# Altium schematic symbol library SchlibIC.SchLib: 35 symbols
Pins are listed as number, name and electrical type; pins without a type are passive.

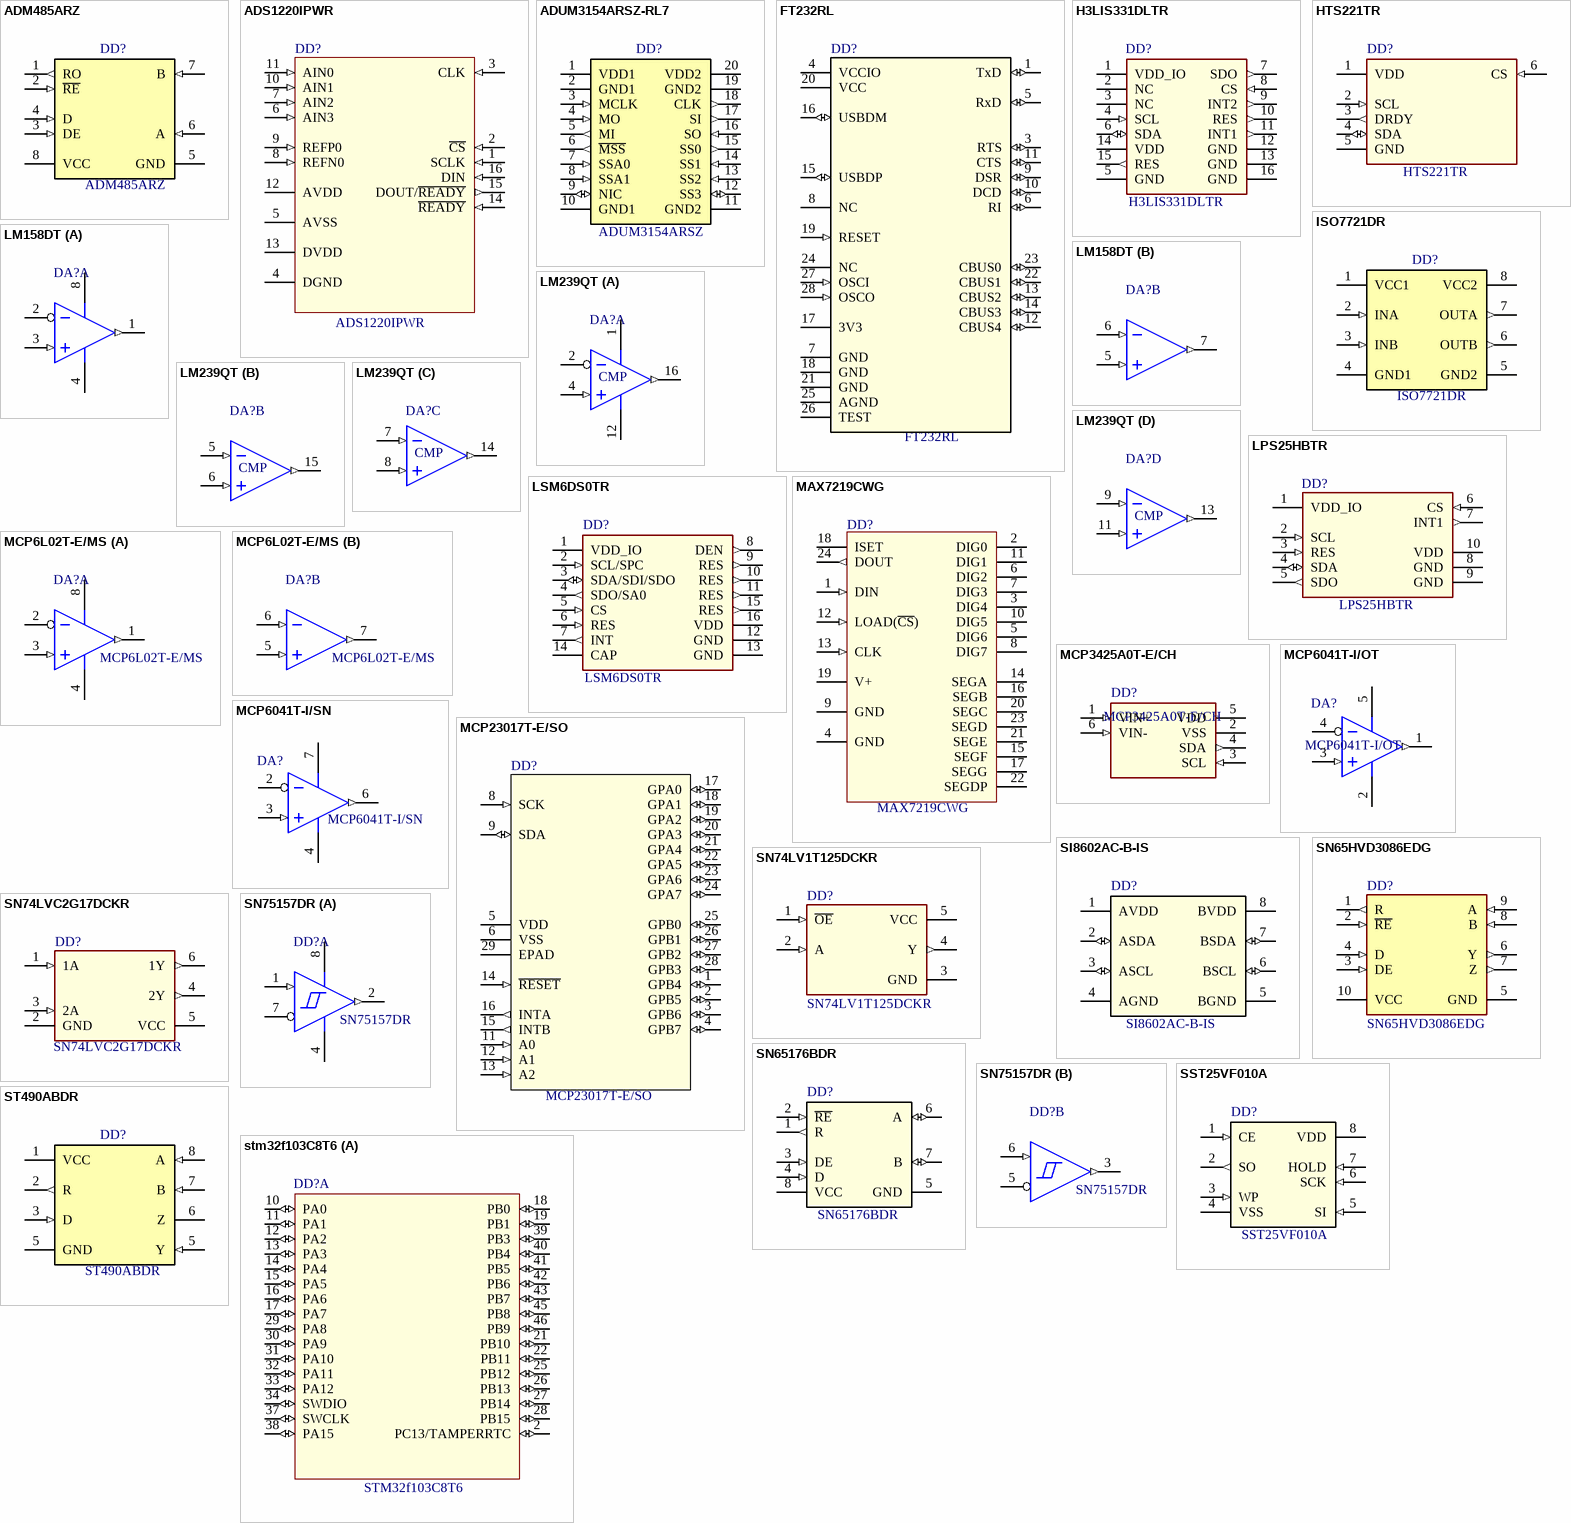
[diagram p0: symbols ADM485ARZ to stm32f103C8T6]

## ADM485ARZ
designator DD?
RS422 RS485 FULL Transceiver MSOP-10 5V; Manufacturer: Analog Devices; Power: 2.5Mbps; Value: RS-422,RS-485; Tolerance: -40°C ~ 85°C; Package: SO-8; Price: 1.8; Documentation: https://belchip.by/product/?selected_product=06293; ShoppingPlace: https://belchip.by/product/?selected_product=06293; Quantity: 1; ComponentLink1Description: STMmicroelectronics; ComponentLink1URL: https://belchip.by/sitedocs/34391.pdf; ValueDesc: =Трансивер ' '+Value+'  '+Package+'+Power+ ' '+Manufacturer; Part Number: ADM485ARZ
footprint 8-SOIC-4,90x3,90mm (SOIC, 8-Leads, Body 4,90x3,90mm, Pitch 1,27mm, IPC Medium Density)
pins: 1 RO (out) "RxD", 2 ~{RE} (in) "Enable RxD", 3 DE (in) "TxD Enable", 4 D (in) "TxD", 5 GND, 6 A (in) "RS485A", 7 B (in) "RS485B", 8 VCC

## ADS1220IPWR
designator DD?
24 Bit Analog to Digital Converter 2, 4 Input 1 Sigma-Delta 16-TSSOP; Manufacturer: Texas Instruments; Power: 2.3 V ~ 5.5 V, ±2.5; Value: ADC; Package: 16-TSSOP; Price: 8.52000; Documentation: http://www.ti.com/lit/ds/symlink/ads1220.pdf; ShoppingPlace: https://ru.aliexpress.com/wholesale?catId=0&initiative_id=SB_20190114102510&SearchText=ADS1220; Quantity: 1; ComponentLink1Description: ADS1220 Datasheet; ComponentLink1URL: http://www.ti.com/lit/ds/symlink/ads1220.pdf; Part Number: ADS1220IPWR
footprint 16-TSSOP (4.5mmx5.1mm1.2mm)
pins: 1 SCLK (in), 2 ~{CS} (in), 3 CLK (in), 4 DGND (power), 5 AVSS (power), 6 AIN3 (in), 7 AIN2 (in), 8 REFN0 (in), 9 REFP0 (in), 10 AIN1 (in), 11 AIN0 (in), 12 AVDD (power), 13 DVDD (power), 14 ~{READY} (in), 15 DOUT/~{READY} (out), 16 DIN (in)

## ADUM3154ARSZ-RL7
designator DD?  PartNumber: ADUM3154ARSZ
SPI Digital Isolator 3750Vrms 4 Channel 2Mbps 25kV/µs CMTI 20-SSOP (0.209", 5.30mm Width); Manufacturer: Analog Devices; Value: DGTL ISO 3.75KV 4CH SPI 20SSOP; Tolerance: -40°C ~ 85°C; ValueDesc: Цифровой изолятор ADUM3154ARSZ 20SSOP Analog Devices; Package: 20SSOP; Price: 5; Documentation: https://www.analog.com/media/en/technical-documentation/data-sheets/ADuM3154.pdf; ShoppingPlace: https://www.digikey.com/product-detail/en/analog-devices-inc/ADUM3154ARSZ-RL7/ADUM3154ARSZ-RL7CT-ND/5011582; Power: 2Mbps; Quantity: 1; ComponentLink1Description: Analog Devices; ComponentLink1URL: https://www.analog.com/media/en/technical-documentation/data-sheets/ADuM3154.pdf
footprint 20-SSOP (7.2mmx5.3mmx2mm)
pins: 1 VDD1 (power) "RxD", 2 GND1, 3 MCLK (in) "Enable RxD", 4 MO (in) "Enable RxD", 5 MI (out) "Enable RxD", 6 ~{MSS} (out) "Enable RxD", 7 SSA0 (in) "Enable RxD", 8 SSA1 (in) "Enable RxD", 9 NIC (io) "Enable RxD", 10 GND1 (power) "Enable RxD", 11 GND2 (power) "Enable RxD", 12 SS3 (io) "Enable RxD", 13 SS2 (in) "Enable RxD", 14 SS1 (in) "Enable RxD", 15 SS0 (out) "Enable RxD", 16 SO (in) "Enable RxD", 17 SI (out) "Enable RxD", 18 CLK (out) "Enable RxD", 19 GND2, 20 VDD2 (power) "RxD"

## FT232RL
designator DD?
Микросхема интерфейсов FT232RL-REEL / RS-232; Manufacturer: EFTDI; Power: 1.8V ~ 5.5 V; ValueDesc: FT232RL-REEL  28-SSOP+Power+ +Manufacturer; Package: 28-SSOP; Price: 7.5; Documentation: https://belchip.by/sitedocs/00002071.pdf; ShoppingPlace: https://belchip.by/product/?selected_product=02071; Quantity: 1; Value: FT232RL-REEL; ComponentLink1Description: EFTDI Datasheet; ComponentLink1URL: https://belchip.by/sitedocs/00002071.pdf; Part Number: FT232RL
footprint 28-SSOP (SSOP, 28-Leads, Body 10,20x5,30mm, Pitch 0,65mm, IPC Medium Density)
pins: 1 TxD (io), 3 RTS (io), 4 VCCIO (power) "POWER", 5 RxD (io), 6 RI (io), 7 GND (power) "NC", 8 NC, 9 DSR (io), 10 DCD (io), 11 CTS (io), 12 CBUS4 (io) "BUS4", 13 CBUS2 (io) "BUS2", 14 CBUS3 (io) "BUS3", 15 USBDP (io) "Digital Data", 16 USBDM (io) "Digital Data", 17 3V3 (power) "3V3OUT", 18 GND (power), 19 RESET (in), 20 VCC (power) "POWER", 21 GND (power), 22 CBUS1 (io) "BUS1", 23 CBUS0 (io) "BUS0", 24 NC, 25 AGND (power) "GND", 26 TEST (power), 27 OSCI (in) "CLOCK", 28 OSCO (in) "CLOCK"

## H3LIS331DLTR
designator DD?
Accelerometer X, Y, Z Axis ±100g, ±200g, ±400g 25Hz ~ 500Hz 16-TFLGA (3x3),ACCEL 100-400G I2C/SPI 16LGA; Manufacturer: STM MicroElectronics; Tolerance: -40°C ~ 85°C; ValueDesc: Акселелрометр +'PartNumber'+'Package'+'Manufacturer'; Part Number: H3LIS331DLTR; Package: 16LGA; Price: 12; Documentation: https://www.st.com/content/ccc/resource/technical/document/data_brief/2f/0b/8a/cd/d8/9d/4f/e8/DM00129124.pdf/files/DM00129124.pdf/jcr:content/translations/en.DM00129124.pdf; ShoppingPlace: https://www.digikey.com/product-detail/en/stmicroelectronics/H3LIS331DLTR/497-13903-6-ND/4311637; Power: ±400g; Quantity: 1; ComponentLink1Description: STMicroelectronics; ComponentLink1URL: https://www.st.com/content/ccc/resource/technical/document/data_brief/2f/0b/8a/cd/d8/9d/4f/e8/DM00129124.pdf/files/DM00129124.pdf/jcr:content/translations/en.DM00129124.pdf; Value: H3LIS331DLTR
footprint 16-TFLGA (3x3)
pins: 1 VDD_IO (power), 2 NC (power), 3 NC (power), 4 SCL (in), 5 GND (power), 6 SDA (io), 7 SDO (out), 8 CS (in), 9 INT2 (out), 10 RES (out), 11 INT1 (out), 12 GND (power), 13 GND (power), 14 VDD (power), 15 RES (out), 16 GND (power)

## HTS221TR
designator DD?
Humidity Temperature Sensor 0 ~ 100% RH I²C, SPI ±4.5% RH 10s Surface Mount; Manufacturer: STM MicroElectronics; Power: 0 ~ 100% RH,1.7V ~ 3.6V; Tolerance: -40°C ~ 120°C; ValueDesc: Датчик влажности и температуры +'PartNumber'+'Package'+'Manufacturer'; Part Number: HTS221TR; Package: 6-VFLGA; Price: 3.57; Documentation: https://www.st.com/content/ccc/resource/technical/document/datasheet/4d/9a/9c/ad/25/07/42/34/DM00116291.pdf/files/DM00116291.pdf/jcr:content/translations/en.DM00116291.pdf; ShoppingPlace: https://www.digikey.com/product-detail/en/stmicroelectronics/HTS221TR/497-15382-6-ND/5180542; Quantity: 1; ComponentLink1Description: STMicroelectronics; ComponentLink1URL: https://www.st.com/resource/en/datasheet/lps25hb.pdf; Value: HTS221TR
footprint HLGA-6L (2mm x 2mmx 0.9 mm)
pins: 1 VDD (power), 2 SCL (in), 3 DRDY (out), 4 SDA (io), 5 GND (power), 6 CS (in)

## ISO7721DR
designator DD?
General Purpose Digital Isolator 3000Vrms 2 Channel 100Mbps 85kV/µs CMTI 8-SOIC (0.154", 3.90mm Width); Manufacturer: Texas Instruments; PVoltage: 3KV; Tolerance: -40°C ~ 85°C; Package: SO-8; Price: 1,84; Documentation: https://www.digikey.com/product-detail/en/stmicroelectronics/ST490ABDR/497-2091-2-ND/599357; ShoppingPlace: https://www.digikey.com/product-detail/en/texas-instruments/ISO7721DR/296-48296-1-ND/8347715; Quantity: 1; Value: ISO7721DR; ComponentLink1Description: Texas Instruments; ComponentLink1URL: http://www.ti.com/lit/ds/symlink/iso7720.pdf; ValueDesc: =Изолятор +' '+Value+' '+Package+' '+Manufacturer; Part Number: ISO7721DR
footprint 8-SOIC-4,90x3,90mm (SOIC, 8-Leads, Body 4,90x3,90mm, Pitch 1,27mm, IPC Medium Density)
pins: 1 VCC1, 2 INA (in) "RxD", 3 INB (in) "TxD", 4 GND1, 5 GND2 (power) "RS485B", 6 OUTB (out) "RS485A", 7 OUTA (out) "RS485B", 8 VCC2 (power) "RS485A"

## LM158DT
designator DA?  (value not drawn)
General Purpose Amplifier 2 Circuit 8-SO; Manufacturer: STMicroelectronics; Power: 1MHZ; Value: 1.8V~6V; Tolerance: -40°C ~ 125°C; Part Number: LM158DT; Package: SO-8; Price: 1,4; Documentation: https://www.st.com/content/ccc/resource/technical/document/datasheet/61/46/87/01/98/ed/44/c5/CD00000464.pdf/files/CD00000464.pdf/jcr:content/translations/en.CD00000464.pdf; ShoppingPlace: https://belchip.by/product/?selected_product=34041; Quantity: 1; ComponentLink1Description: STMicroelectronics; ComponentLink1URL: https://www.st.com/content/ccc/resource/technical/document/datasheet/61/46/87/01/98/ed/44/c5/CD00000464.pdf/files/CD00000464.pdf/jcr:content/translations/en.CD00000464.pdf; DateAdd: 20.07.2019; ValueDesc: =Операционный усилитель +' '+PartNumber+' '+Package+' '+Manufacturer
footprint 8-SOIC-4,90x3,90mm (SOIC, 8-Leads, Body 4,90x3,90mm, Pitch 1,27mm, IPC Medium Density)
part A pins: 1 VOUTA (out), 2 VINA-, 3 VINA+ (in), 4 VSS, 8 VDD
part B pins: 5 VINB+ (in), 6 VINB- (in), 7 VOUTB (out)

## LM239QT
designator DA?  (value not drawn)
Comparator Differential CMOS, DTL, ECL, MOS, Open-Collector, TTL 16-QFN (3x3); Manufacturer: ST MicroElectronics; Power: 2V ~ 36V, ±1V ~ 18V; Tolerance: -40°C ~ 125°C; Part Number: LM239QT; Package: 16-QFN (3x3); Price: 0,44; Documentation: https://www.st.com/content/ccc/resource/technical/document/datasheet/bf/7e/d7/a4/67/86/4e/89/CD00000460.pdf/files/CD00000460.pdf/jcr:content/translations/en.CD00000460.pdf; ShoppingPlace: https://www.digikey.com/product-detail/en/microchip-technology/MCP6L02T-E-MS/MCP6L02T-E-MSTR-ND/2059745; Quantity: 1; Value: LM239QT; ComponentLink1Description: ST MicroElectronics; ComponentLink1URL: https://www.st.com/content/ccc/resource/technical/document/datasheet/bf/7e/d7/a4/67/86/4e/89/CD00000460.pdf/files/CD00000460.pdf/jcr:content/translations/en.CD00000460.pdf; ValueDesc: ='Компаратор '+Value+' '+Package+' '+Power+ ' '+Manufacturer' '
footprint 16-QFN(3mmx3mm) (3mmx3mm)
part A pins: 1 VDD, 2 VINA-, 4 VINA+ (in), 12 VSS, 16 VOUTA (out)
part B pins: 5 VINB- (in), 6 VINB+ (in), 15 VOUTB (out)
part C pins: 7 VINC- (in), 8 VINC+ (in), 14 VOUTC (out)
part D pins: 9 VIND- (in), 11 VIND+ (in), 13 VOUTB (out)
part A text: CMP
part B text: CMP
part C text: CMP
part D text: CMP

## LPS25HBTR
designator DD?
Pressure Sensor 3.77PSI ~ 18.27PSI (26kPa ~ 126kPa) Absolute 24 b 10-VFLGA; Manufacturer: STM MicroElectronics; Power: 26kPa ~ 126kPa,1.7V ~ 3.6V; Tolerance: -30°C ~ 105°C; ValueDesc: Датчик давления +'PartNumber'+'Package'+'Manufacturer'; Part Number: LPS25HBTR; Package: 10-VFLGA; Price: 3,79; Documentation: https://www.st.com/resource/en/datasheet/lps25hb.pdf; ShoppingPlace: https://www.digikey.com/product-detail/en/stmicroelectronics/LPS25HBTR/497-15070-1-ND/5043076; Quantity: 1; ComponentLink1Description: STMicroelectronics; ComponentLink1URL: https://www.st.com/resource/en/datasheet/lps25hb.pdf; Value: LPS25HBTR
footprint HLGA-10L ((2.5 x 2.5 x 0.76 mm)
pins: 1 VDD_IO (power), 2 SCL (in), 3 RES (in), 4 SDA (io), 5 SDO (out), 6 CS (in), 7 INT1 (out), 8 GND (power), 9 GND (power), 10 VDD (power)

## LSM6DS0TR
designator DD?
Accelerometer, Gyroscope, Temperature, 3 Axis Sensor I²C, SPI Output; Manufacturer: STM MicroElectronics; Power: ±16g; Tolerance: -40°C ~ 85°C; ValueDesc: Акселелрометр +'PartNumber'+'Package'+'Manufacturer'; Part Number: LSM6DS0TR; Package: 16-LGA (3x3); Price: 12; Documentation: https://www.st.com/resource/en/data_brief/steval-mki161v1.pdf; ShoppingPlace: https://www.digikey.com/products/en/sensors-transducers/motion-sensors-imus-inertial-measurement-units/567?k=LSM6DS0; Quantity: 1; ComponentLink1Description: STMicroelectronics; ComponentLink1URL: https://www.st.com/resource/en/data_brief/steval-mki161v1.pdf; Value: LSM6DS0TR
footprint 16-TFLGA (3x3)
pins: 1 VDD_IO (power), 2 SCL/SPC (in), 3 SDA/SDI/SDO (io), 4 SDO/SA0 (out), 5 CS (in), 6 RES (in), 7 INT (out), 8 DEN (out), 9 RES (out), 10 RES (out), 11 RES (out), 12 GND (power), 13 GND (power), 14 CAP (power), 15 RES (out), 16 VDD (power)

## MAX7219CWG
designator DD?
Драйвер MAX7219CWG+ / SO-24; Manufacturer: MAXIM-DALLAS; Power: 0.3 V to 6 V; Value: LED DRIVER; Package: SO-24; Price: 2; Documentation: https://belchip.by/sitedocs/00013481.pdf; ShoppingPlace: https://ru.mouser.com/ProductDetail/Microchip-Technology/MCP3425A0T-E-CH?qs=sGAEpiMZZMu6TJb8E8CjrwW15xp0VfNa; Quantity: *; Part Number: MAX7219CWG
footprint 24-SO (SO-24 10.65mmx15.65mmx1mm)
pins: 1 DIN (in), 2 DIG0 (power), 3 DIG4 (power), 4 GND (power), 5 DIG6 (power), 6 DIG2 (power), 7 DIG3 (power), 8 DIG7 (power), 9 GND (power), 10 DIG5 (power), 11 DIG1 (power), 12 LOAD(~{CS}) (in), 13 CLK (in), 14 SEGA (power), 15 SEGF (power), 16 SEGB (power), 17 SEGG (power), 18 ISET (power), 19 V+ (power), 20 SEGC (power), 21 SEGE (power), 22 SEGDP (power), 23 SEGD (power), 24 DOUT (out)

## MCP6L02T-E/MS
designator DA?
Amplifier GP Rail-to-Rail 1MHZ RRO 8-MSOP 1.8V~6V; Manufacturer: Microchip; Power: 1.8В~6В; Tolerance: -40°C ~ 125°C; ValueDesc: MCP6L02T-E/MS операционный усилитель 8-MSOP  (3.00mm)  -40°C ~ 125°C  Microchip; Part Number: MCP6L02T-E/MS; Package: 8-MSOP  (3.00mm); Price: 0,25; Documentation: http://ww1.microchip.com/downloads/en/DeviceDoc/22140b.pdf; ShoppingPlace: https://www.digikey.com/product-detail/en/microchip-technology/MCP6L02T-E-MS/MCP6L02T-E-MSTR-ND/2059745; Quantity: *; ComponentLink1Description: microchip; ComponentLink1URL: http://ww1.microchip.com/downloads/en/DeviceDoc/22140b.pdf; Value: MCP6L02T-E/MS
footprint SSOP-8-3X3-0.65 (MSOP, 8-Leads, Body 3,00x3,00mm, Pitch 0,65mm, IPC Medium Density)
part A pins: 1 VOUTA (out), 2 VINA-, 3 VINA+ (in), 4 VSS, 8 VDD
part B pins: 5 VINB+ (in), 6 VINB- (in), 7 VOUTB (out)

## MCP3425A0T-E/CH
designator DD?
Микроконтроллеры ARM Ultra-low-power ARАналого-цифровые преобразователи (АЦП) 16-B delta-sigma ADC Sngl Ch 15sps; Manufacturer: Microchip; Power: 2.7 V to 5.5 V; Value: 16-bit ADC; Part Number: MCP3425A0T-E/CH; Package: SOT-23-6; Price: 1; Documentation: https://ru.mouser.com/datasheet/2/268/22072a-46165.pdf; ShoppingPlace: https://ru.mouser.com/ProductDetail/Microchip-Technology/MCP3425A0T-E-CH?qs=sGAEpiMZZMu6TJb8E8CjrwW15xp0VfNa; Quantity: *
footprint SOT-23-6(2,90mmx2,70mm) (SOT23, 6-Leads, Body 2,90x2,70mm, Pitch 0,95mm, IPC Medium Density)
pins: 1 VIN+ (in) "GPIO port E bit 0", 2 VSS (power) "GPIO port E bit 0", 3 SCL (in) "GPIO port E bit 0", 4 SDA (out) "GPIO port E bit 0", 5 VDD (power) "GPIO port E bit 0", 6 VIN- (in) "GPIO port E bit 0"

## MCP6041T-I/OT
designator DA?
General Purpose Amplifier 1 Circuit Rail-to-Rail SOT-23-5; Manufacturer: Microchip Technology; Power: 0.3 V to 6 V; Part Number: MCP6041T-I/OT; Package: SOT-23-5; Price: 2; Documentation: https://www.dexsilicium.com/Microchip_MCP6041.pdf; ShoppingPlace: https://www.digikey.com/product-detail/en/microchip-technology/MCP6041T-I-OT/MCP6041T-I-OTTR-ND/482264; Quantity: 1; Value: Amplifier
footprint SOT23-5-1.6
pins: 1 VOUT (out), 2 VSS, 3 VINA+ (in), 4 VIN-, 5 VDD

## MCP6041T-I/SN
designator DA?
General Purpose Amplifier 1 Circuit Rail-to-Rail 8-SOIC; Manufacturer: Microchip Technology; Power: 0.3 V to 6 V; Part Number: MCP6041T-I/SN; Package: 8-SOIC; Price: 0,62; Documentation: https://www.dexsilicium.com/Microchip_MCP6041.pdf; ShoppingPlace: https://www.digikey.com/product-detail/en/microchip-technology/MCP6041T-I-SN/MCP6041T-I-SNCT-ND/529847; Quantity: 1; Value: Amplifier
footprint 8-SOIC-4,90x3,90mm (SOIC, 8-Leads, Body 4,90x3,90mm, Pitch 1,27mm, IPC Medium Density)
pins: 2 VIN-, 3 VINA+ (in), 4 VSS, 6 VOUT (out), 7 VDD

## MCP23017T-E/SO
designator DD?
I/O Expander 16 I²C 1.7MHz QFN-28; Manufacturer: Microchip Technology; Power: 2.3 V ~ 5.5 V; ValueDesc: MCP23017T-E/SO Расширитель портов QFN-28  Microchip Technology; Package: QFN-28; Price: 1,24; Documentation: http://ww1.microchip.com/downloads/en/DeviceDoc/20001952C.pdf; ShoppingPlace: https://www.digikey.com/product-detail/en/microchip-technology/MCP23017T-E-ML/MCP23017T-E-MLCT-ND/5148843; Quantity: 1; Value: MCP23017T-E/SO; ComponentLink1Description: Microchip Technology; ComponentLink1URL: http://ww1.microchip.com/downloads/en/DeviceDoc/20001952C.pdf; Part Number: MCP23017T-E/SO
footprint QFN-28-TPAD (QFN, 28-Leads, Body 6,00x6,00mm, Pitch 0,65mm, Thermal Pad 3,95x3,95mm, IPC Medium Density)
pins: 1 GPB4 (io) "GPIO", 2 GPB5 (io) "GPIO", 3 GPB6 (io) "GPIO", 4 GPB7 (io) "GPIO", 5 VDD (power), 6 VSS (power), 8 SCK (in) "I2C SCL", 9 SDA (io) "I2C SDA", 11 A0 (in) "Adress", 12 A1 (in) "Adress", 13 A2 (in) "Adress", 14 ~{RESET} (in) "RESET", 15 INTB (out) "Interrupt", 16 INTA (out) "Interrupt", 17 GPA0 (io) "GPIO", 18 GPA1 (io) "GPIO", 19 GPA2 (io) "GPIO", 20 GPA3 (io) "GPIO", 21 GPA4 (io) "GPIO", 22 GPA5 (io) "GPIO", 23 GPA6 (io) "GPIO", 24 GPA7 (io) "GPIO", 25 GPB0 (io) "GPIO", 26 GPB1 (io) "GPIO", 27 GPB2 (io) "GPIO", 28 GPB3 (io) "GPIO", 29 EPAD (power) "GND"

## SI8602AC-B-IS
designator DD?
I²C Digital Isolator 3750Vrms 2 Channel 35kV/µs CMTI 8-SOIC (0.154", 3.90mm Width); Manufacturer: Microchip Technology; Power: 3 V to 5.5 V; ValueDesc: SI8602AC-B-IS Изолятор 8-SOIC  Microchip Technology; Package: 8-SOIC; Price: 2.99; Documentation: http://ww1.microchip.com/downloads/en/DeviceDoc/25081A.pdf; ShoppingPlace: https://www.digikey.com/product-detail/en/texas-instruments/SN65176BDR/296-14636-2-ND/555967; Quantity: 1; Value: SI8602AC-B-IS; ComponentLink1Description: Silicon Labs datasheet; ComponentLink1URL: https://www.silabs.com/documents/public/data-sheets/Si860x.pdf; Type: ISOLATOR; Part Number: SI8602AC-B-IS
footprint 8-SOIC-4,90x3,90mm (SOIC, 8-Leads, Body 4,90x3,90mm, Pitch 1,27mm, IPC Medium Density)
pins: 1 AVDD (power) "POWER", 2 ASDA (io) "Data", 3 ASCL (io) "Write Protect", 4 AGND (power) "GND", 5 BGND (power) "GND", 6 BSCL (io) "B BUS", 7 BSDA (io) "Hold", 8 BVDD (power) "VCC"

## SN65HVD3086EDG
designator DD?
RS422 RS485 FULL Transceiver MSOP-10 5V; Manufacturer: Texas Instruments; Power: 20Mbps; Tolerance: -40°C ~ 85°C; ValueDesc: SN65HVD3086EDG RS-422/485 конвертер MSOP-10  Texas Instruments; Package: MSOP-10; Price: 1,6; Documentation: http://www.ti.com/lit/ds/symlink/sn65hvd3080e.pdf; ShoppingPlace: https://www.digikey.com/product-detail/en/texas-instruments/SN65HVD3086EDGSR/296-21412-2-ND/1278933; Quantity: 1; Value: SN65HVD3086EDG; Type: RS Converter; ComponentLink1Description: Texas Instruments datasheet; ComponentLink1URL: http://www.ti.com/lit/ds/symlink/sn65hvd3080e.pdf; Part Number: SN65HVD3086EDG
footprint MSOP-10-3X3-0.5 (MSOP-10, Body 3x3mm)
pins: 1 R (out), 2 ~{RE} (in), 3 DE (in), 4 D (in), 5 GND, 6 Y (out), 7 Z (out), 8 B (in), 9 A (in), 10 VCC

## SN74LV1T125DCKR
designator DD?
BUFFER GATE SHIFT LEVEL CMOS SC70-5; Manufacturer: Texas Instruments; Power: 8mA, 8mA; Tolerance: 1.6 V ~ 5.5 V; ValueDesc: SN74LV1T125DCKR Преобр.логик.урвн. MSOP-10  1.6 V ~ 5.5 V  Texas Instruments; Package: MSOP-10; Price: 0,47; Documentation: http://www.ti.com/lit/ds/symlink/sn74lv1t125.pdf; ShoppingPlace: https://www.digikey.com/product-detail/en/texas-instruments/SN74LV1T125DCKR/296-37173-1-ND/4555590; Quantity: 1; Value: SN74LV1T125DCKR; Type: trigger Shmitter; ComponentLink1Description: Texas Instruments datasheet; ComponentLink1URL: http://www.ti.com/lit/ds/symlink/sn74lv1t125.pdf; Part Number: SN74LV1T125DCKR
footprint SOT353-5-1.25X2.1-0.65 (SC-70-5, 0.65 PITCH)
pins: 1 ~{OE} (in) "Clear Data Input", 2 A (in) "Clock Input", 3 GND "Ground", 4 Y (out) "Output", 5 VCC "Power"

## SN74LVC2G17DCKR
designator DD?
Buffer, Non-Inverting 2 Element 1 Bit per Element Push-Pull Output SC-70-6; Manufacturer: Texas Instruments; Power: 8mA, 8mA; Tolerance: 1.6 V ~ 5.5 V; ValueDesc: SN74LVC2G17DCKR Преобр.логик.урвн. SC-70-6  1.6 V ~ 5.5 V  Texas Instruments; Package: SC-70-6; Price: 0,53; Documentation: http://www.ti.com/lit/ds/symlink/sn74lvc2g17.pdf; ShoppingPlace: https://www.digikey.com/product-detail/en/texas-instruments/SN74LVC2G17DCKR/296-13013-1-ND/479736; Quantity: 1; Value: SN74LVC2G17DCKR; ComponentLink1Description: Texas Instruments; ComponentLink1URL: http://www.ti.com/lit/ds/symlink/sn74lvc2g17.pdf; Type: Level Shiftter; Part Number: SN74LVC2G17DCKR
footprint SOT353-6-1.25X2.1-0.65 (SC-70-6, 0.65 PITCH)
pins: 1 1A (in) "Data Input", 2 GND "Ground", 3 2A (in) "Data Input", 4 2Y (out) "Output", 5 VCC "Power", 6 1Y (out) "Output"

## SN65176BDR
designator DD?
1/1 Transceiver Half RS422, RS485 8-SOIC; Manufacturer: Texas Instruments; Power: 2.7 V to 5.5 V; ValueDesc: SN65176BDR RS-422/485 конвертер 8-SOIC  Texas Instruments; Package: 8-SOIC; Price: 2,5; Documentation: http://www.ti.com/lit/ds/symlink/sn65176b.pdf; ShoppingPlace: https://www.digikey.com/product-detail/en/texas-instruments/SN65176BDR/296-14636-2-ND/555967; Quantity: 1; Value: SN65176BDR; ComponentLink1Description: Texas Instruments; ComponentLink1URL: http://www.ti.com/lit/ds/symlink/sn65176b.pdf; Type: RS Converter; Part Number: SN65176BDR
footprint 8-SOIC-4,90x3,90mm (SOIC, 8-Leads, Body 4,90x3,90mm, Pitch 1,27mm, IPC Medium Density)
pins: 1 R (out) "Read Data", 2 ~{RE} (in) "Read Enable", 3 DE (in) "Data Enable", 4 D (in) "Data", 5 GND (power), 6 A (io) "A BUS", 7 B (io) "B BUS", 8 VCC (power)

## SN75157DR
designator DD?
0/2 Receiver RS422, RS423 8-SOIC; Manufacturer: Texas Instruments; Power: 4.75В~5.25В; Tolerance: -40°C ~ 125°C; ValueDesc: SN75157DR Диффиринциальный приемник 8SOIC  -40°C ~ 125°C  Texas Instruments; Part Number: SN75157DR; Package: 8SOIC; Price: 2.5; Documentation: http://www.ti.com/lit/ds/symlink/sn75157.pdf; ShoppingPlace: https://www.digikey.com/products/en/integrated-circuits-ics/interface-drivers-receivers-transceivers/710?k=75157; Quantity: 1; ComponentLink1Description: Texas Instruments; ComponentLink1URL: http://www.ti.com/lit/ds/symlink/sn75157.pdf; Value: SN75157DR
footprint 8-SOIC-4,90x3,90mm (SOIC, 8-Leads, Body 4,90x3,90mm, Pitch 1,27mm, IPC Medium Density)
part A pins: 1 1IN+ (in), 2 VOUTA (out), 4 VSS, 7 1IN-, 8 VDD
part B pins: 3 2OUT (out), 5 2IN-, 6 2IN+ (in)

## SST25VF010A
designator DD?
FLASH Memory IC 1Mb (128K x 8) SPI 33MHz 8-SOIC; Manufacturer: Microchip Technology; Power: 2.7 V to 5.5 V; ValueDesc: SST25VF010A Flash память 8-SOIC  Microchip Technology; Package: 8-SOIC; Price: 2,5; Documentation: http://ww1.microchip.com/downloads/en/DeviceDoc/25081A.pdf; ShoppingPlace: https://www.digikey.com/product-detail/en/texas-instruments/SN65176BDR/296-14636-2-ND/555967; Quantity: 1; Value: SST25VF010A; ComponentLink1Description: Microchip Technology; ComponentLink1URL: http://ww1.microchip.com/downloads/en/DeviceDoc/25081A.pdf; Type: FLASH; Part Number: SST25VF010A
footprint 8-SOIC-4,90x3,90mm (SOIC, 8-Leads, Body 4,90x3,90mm, Pitch 1,27mm, IPC Medium Density)
pins: 1 CE (in) "Chip Enable", 2 SO (out) "Read Data", 3 WP (in) "Write Protect", 4 VSS (power) "GND", 5 SI (in) "DATA INPUT", 6 SCK (in) "B BUS", 7 HOLD (in) "Hold", 8 VDD (power) "VCC"

## ST490ABDR
designator DD?  PartNumber: ST490ABDR
RS422 RS485 FULL Transceiver MSOP-10 5V; Manufacturer: STMicroelectronics; Power: 2.5Mbps; Value: RS-422,RS-485; Tolerance: -40°C ~ 85°C; ValueDesc: ТрансиверPartNumberPackageManufacturer; Package: SO-8; Price: 0,6; Documentation: https://www.st.com/content/ccc/resource/technical/document/datasheet/45/b4/14/d4/eb/dc/4a/7e/CD00003152.pdf/files/CD00003152.pdf/jcr:content/translations/en.CD00003152.pdf; ShoppingPlace: https://www.digikey.com/product-detail/en/stmicroelectronics/ST490ABDR/497-2091-2-ND/599357; Quantity: 1; ComponentLink1Description: STMmicroelectronics; ComponentLink1URL: https://belchip.by/sitedocs/34391.pdf
footprint 8-SOIC-4,90x3,90mm (SOIC, 8-Leads, Body 4,90x3,90mm, Pitch 1,27mm, IPC Medium Density)
pins: 1 VCC (power), 2 R (out), 3 D (in) "TxD", 5 Y (in), 5 GND, 6 Z, 7 B (in), 8 A (in)

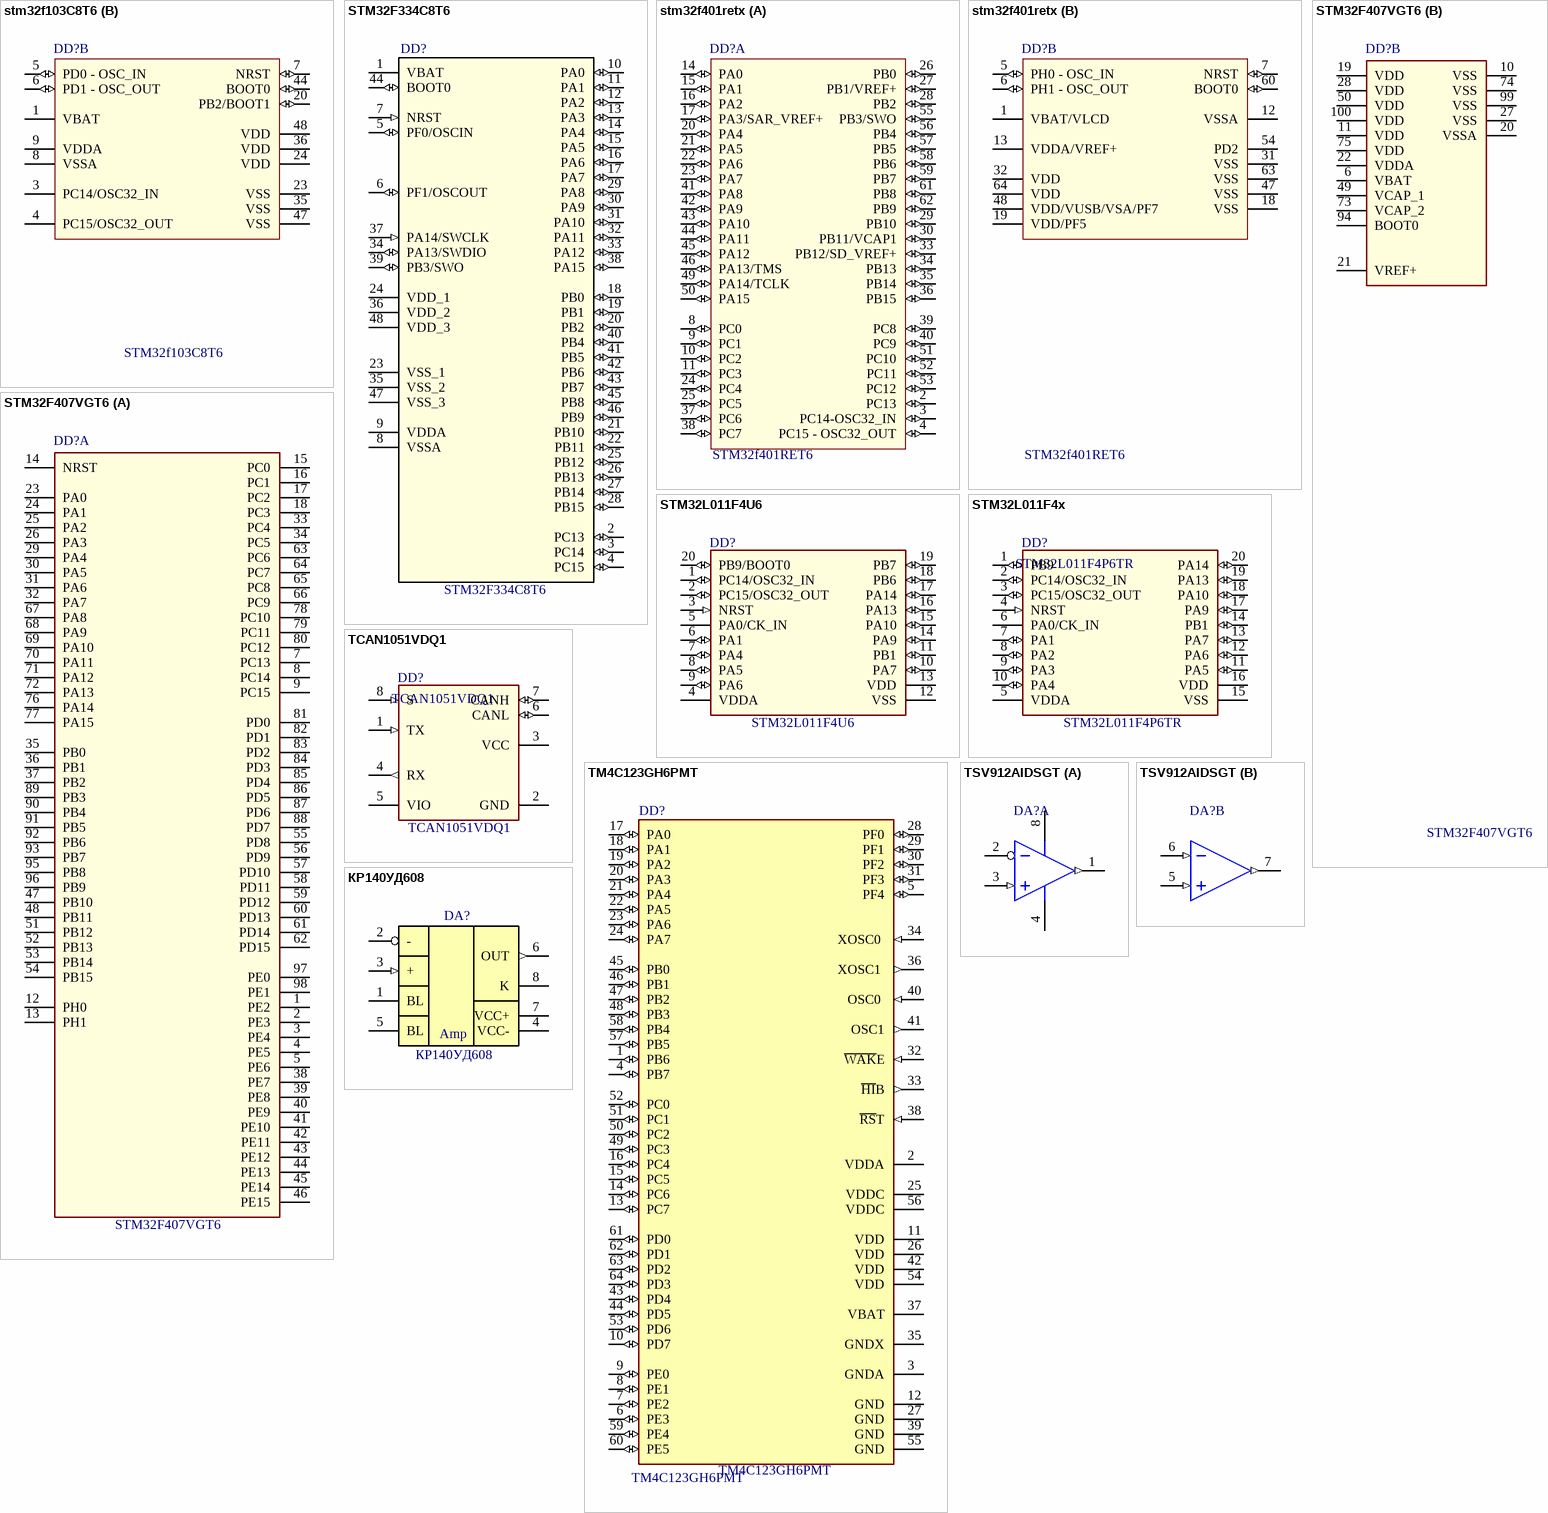
[diagram p1: symbols stm32f103C8T6 to КР140УД608]

## stm32f103C8T6
designator DD?, comment value STM32f103C8T6  (hidden comment: STM32f103C8xx)
ARM® Cortex®-M3 STM32F1 Microcontroller IC 32-Bit 72MHz 64KB (64K x 8) FLASH 48-LQFP (7x7); Manufacturer: STM Electronics; Power: 1.8 V ~ 3.6 V; ValueDesc: STM32f103C8T6 Микроконтроллер 48-LQFP  STM Electronics; Package: 48-LQFP; Price: 6.69; Documentation: https://media.digikey.com/pdf/Data%20Sheets/ST%20Microelectronics%20PDFS/STM32F103x8,B.pdf; ShoppingPlace: https://www.digikey.com/product-detail/en/stmicroelectronics/STM32F103C8T6TR/497-17666-1-ND/7804402; Quantity: 1; Part Number: STM32f103C8xx; ComponentLink1Description: STM MicroElectronics; ComponentLink1URL: https://media.digikey.com/pdf/Data%20Sheets/ST%20Microelectronics%20PDFS/STM32F103x8,B.pdf
footprint 48-LQFP (7x7) (7mmx7mmx1mm)
part A pins: 2 PC13/TAMPERRTC (io), 10 PA0 (io), 11 PA1 (io), 12 PA2 (io), 13 PA3 (io), 14 PA4 (io), 15 PA5 (io), 16 PA6 (io), 17 PA7 (io), 18 PB0 (io), 19 PB1 (io), 21 PB10 (io), 22 PB11 (io), 25 PB12 (io), 26 PB13 (io), 27 PB14 (io), 28 PB15 (io), 29 PA8 (io), 30 PA9 (io), 31 PA10 (io), 32 PA11 (io), 33 PA12 (io), 34 SWDIO (io), 37 SWCLK (io), 38 PA15 (io), 39 PB3 (io), 40 PB4 (io), 41 PB5 (io), 42 PB6 (io), 43 PB7 (io), 45 PB8 (io), 46 PB9 (io)
part B pins: 1 VBAT (power) "Positive supply for most of the logic function", 3 PC14/OSC32_IN (power) "Positive supply for most of the logic function", 4 PC15/OSC32_OUT (power) "Positive supply for most of the logic function", 5 PD0 - OSC_IN (io) "Positive supply for most of the logic function", 6 PD1 - OSC_OUT (io) "Positive supply for most of the logic function", 7 NRST (io) "Positive supply for most of the logic function", 8 VSSA (power) "Positive supply for most of the logic function", 9 VDDA (power) "Positive supply for most of the logic function", 20 PB2/BOOT1 (io), 23 VSS (power) "Positive supply for most of the logic function", 24 VDD (power) "Positive supply for most of the logic function", 35 VSS (power) "Positive supply for most of the logic function", 36 VDD (power) "Positive supply for most of the logic function", 44 BOOT0 (io) "Positive supply for most of the logic function", 47 VSS (power) "Positive supply for most of the logic function", 48 VDD (power) "Positive supply for most of the logic function"

## STM32F334C8T6
designator DD?
ARM® Cortex®-M4 STM32F3 Microcontroller IC 32-Bit 72MHz 64KB (64K x 8) FLASH 48-LQFP (7x7); Manufacturer: STM MicroElectronics; Power: 1.65 V to 3.6 V; ValueDesc: Микроконтроллер +'PartNumber'+'Package'+'Manufacturer'; Package: 48-LQFP; Price: 4,96; Documentation: https://www.st.com/content/ccc/resource/technical/document/reference_manual/71/30/2e/f3/20/5b/46/c1/DM00093941.pdf/files/DM00093941.pdf/jcr:content/translations/en.DM00093941.pdf; ShoppingPlace: https://www.digikey.com/products/en?keywords=STM32F334C8T6; Quantity: 1; Value: 32-bit; ComponentLink1Description: STM MicroElectronics; ComponentLink1URL: https://www.st.com/content/ccc/resource/technical/document/reference_manual/71/30/2e/f3/20/5b/46/c1/DM00093941.pdf/files/DM00093941.pdf/jcr:content/translations/en.DM00093941.pdf; Part Number: STM32F334C8T6
footprint 48-LQFP (7x7) (7mmx7mmx1mm)
pins: 1 VBAT (power), 2 PC13 (io) "GPIO", 3 PC14 (io) "GPIO", 4 PC15 (io) "GPIO", 5 PF0/OSCIN (io) "POWER", 6 PF1/OSCOUT (io) "POWER", 7 NRST (in) "POWER", 8 VSSA (power) "POWER", 9 VDDA (power) "POWER", 10 PA0 (io) "GPIO", 11 PA1 (io) "GPIO", 12 PA2 (io) "GPIO", 13 PA3 (io) "GPIO", 14 PA4 (io) "GPIO", 15 PA5 (io) "GPIO", 16 PA6 (io) "GPIO", 17 PA7 (io) "GPIO", 18 PB0 (io) "GPIO", 19 PB1 (io) "GPIO", 20 PB2 (io) "GPIO", 21 PB10 (io) "GPIO", 22 PB11 (io) "GPIO", 23 VSS_1 (power) "POWER", 24 VDD_1 (power) "POWER", 25 PB12 (io) "GPIO", 26 PB13 (io) "GPIO", 27 PB14 (io) "GPIO", 28 PB15 (io) "GPIO", 29 PA8 (io) "GPIO", 30 PA9 (io) "GPIO", 31 PA10 (io) "GPIO", 32 PA11 (io) "GPIO", 33 PA12 (io) "GPIO", 34 PA13/SWDIO (io) "SWD", 35 VSS_2 (power) "POWER", 36 VDD_2 (power) "POWER", 37 PA14/SWCLK (in) "SWD", 38 PA15 (io) "GPIO", 39 PB3/SWO (io) "SWD", 40 PB4 (io) "GPIO", 41 PB5 (io) "GPIO", 42 PB6 (io) "GPIO", 43 PB7 (io) "GPIO", 44 BOOT0 (io) "DEBUG", 45 PB8 (io) "GPIO", 46 PB9 (io) "GPIO", 47 VSS_3 (power) "POWER", 48 VDD_3 (power) "POWER"

## stm32f401retx
designator DD?, comment stm32f401ret6
ARM® Cortex®-M4 STM32F4 Microcontroller IC 32-Bit 84MHz 512KB (512K x 8) FLASH 64-LQFP (10x10); Manufacturer: STM Electronics; Power: 1.8 V ~ 3.6 V; ValueDesc: Микроконтроллер +'PartNumber'+'Package'+'Manufacturer'; Package: 64-LQFP; Price: 7.79; Documentation: https://www.st.com/resource/en/datasheet/stm32f401cb.pdfhttps://www.st.com/resource/en/datasheet/stm32f401cb.pdf; ShoppingPlace: https://www.digikey.com/product-detail/en/stmicroelectronics/STM32F407VGT6/497-11605-ND/2747117; Quantity: 1; Part Number: stm32f401ret6; Value: STM32f401RET6
footprint QFP-64-10x10-0.5 (LQFP, 64-Leads, Body 10x10mm, Pitch 0.5mm)
part A pins: 2 PC13 (io), 3 PC14-OSC32_IN (io), 4 PC15 - OSC32_OUT (io), 8 PC0 (io), 9 PC1 (io), 10 PC2 (io), 11 PC3 (io), 14 PA0 (io), 15 PA1 (io), 16 PA2 (io), 17 PA3/SAR_VREF+ (io), 20 PA4 (io), 21 PA5 (io), 22 PA6 (io), 23 PA7 (io), 24 PC4 (io), 25 PC5 (io), 26 PB0 (io), 27 PB1/VREF+ (io), 28 PB2 (io), 29 PB10 (io), 30 PB11/VCAP1 (io), 33 PB12/SD_VREF+ (io), 34 PB13 (io), 35 PB14 (io), 36 PB15 (io), 37 PC6 (io), 38 PC7 (io), 39 PC8 (io), 40 PC9 (io), 41 PA8 (io), 42 PA9 (io), 43 PA10 (io), 44 PA11 (io), 45 PA12 (io), 46 PA13/TMS (io), 49 PA14/TCLK (io), 50 PA15 (io), 51 PC10 (io), 52 PC11 (io), 53 PC12 (io), 55 PB3/SWO (io), 56 PB4 (io), 57 PB5 (io), 58 PB6 (io), 59 PB7 (io), 61 PB8 (io), 62 PB9 (io)
part B pins: 1 VBAT/VLCD (power) "Positive supply for most of the logic function", 5 PH0 - OSC_IN (io) "Positive supply for most of the logic function", 6 PH1 - OSC_OUT (io) "Positive supply for most of the logic function", 7 NRST (io) "Positive supply for most of the logic function", 12 VSSA (power) "Positive supply for most of the logic function", 13 VDDA/VREF+ (power) "Positive supply for most of the logic function", 18 VSS (power) "Positive supply for most of the logic function", 19 VDD/PF5 (power) "Positive supply for most of the logic function", 31 VSS (power) "Positive supply for most of the logic function", 32 VDD (power) "Positive supply for most of the logic function", 47 VSS (power) "Positive supply for most of the logic function", 48 VDD/VUSB/VSA/PF7 (power) "Positive supply for most of the logic function", 54 PD2 (power) "Positive supply for most of the logic function", 60 BOOT0 (io) "Positive supply for most of the logic function", 63 VSS (power) "Positive supply for most of the logic function", 64 VDD (power) "Positive supply for most of the logic function"

## STM32F407VGT6
designator DD?
ARM® Cortex®-M4 STM32F4 Microcontroller IC 32-Bit 168MHz 1MB (1M x 8) FLASH 100-LQFP (14x14); Manufacturer: STM Electronics; Power: 1.8 V ~ 3.6 V; ValueDesc: Микроконтроллер +'PartNumber'+'Package'+'Manufacturer'; Package: 100-LQFP (14x14); Documentation: https://www.st.com/content/ccc/resource/technical/document/datasheet/ef/92/76/6d/bb/c2/4f/f7/DM00037051.pdf/files/DM00037051.pdf/jcr:content/translations/en.DM00037051.pdf; ShoppingPlace: https://www.digikey.com/product-detail/en/stmicroelectronics/STM32F407VGT6/497-11605-ND/2747117; Quantity: 1; Value: 32-bit; Part Number: STM32F407VGT6
footprint 100-LQFP (14x14) (14 x 14x0.5)
part A pins: 1 PE2 (power) "Positive supply for most of the logic function", 2 PE3 (power) "Positive supply for most of the logic function", 3 PE4 (power) "Positive supply for most of the logic function", 4 PE5 (power) "Positive supply for most of the logic function", 5 PE6 (power) "Positive supply for most of the logic function", 7 PC13 (power) "Positive supply for most of the logic function", 8 PC14 (power) "Positive supply for most of the logic function", 9 PC15 (power) "Positive supply for most of the logic function", 12 PH0 (power) "Positive supply for most of the logic function", 13 PH1 (power) "Positive supply for most of the logic function", 14 NRST (power) "Positive supply for most of the logic function", 15 PC0 (power) "Positive supply for most of the logic function", 16 PC1 (power) "Positive supply for most of the logic function", 17 PC2 (power) "Positive supply for most of the logic function", 18 PC3 (power) "Positive supply for most of the logic function", 23 PA0 (power) "Positive supply for most of the logic function", 24 PA1 (power) "Positive supply for most of the logic function", 25 PA2 (power) "Positive supply for most of the logic function", 26 PA3 (power) "Positive supply for most of the logic function", 29 PA4 (power) "Positive supply for most of the logic function", 30 PA5 (power) "Positive supply for most of the logic function", 31 PA6 (power) "Positive supply for most of the logic function", 32 PA7 (power) "Positive supply for most of the logic function", 33 PC4 (power) "Positive supply for most of the logic function", 34 PC5 (power) "Positive supply for most of the logic function", 35 PB0 (power) "Positive supply for most of the logic function", 36 PB1 (power) "Positive supply for most of the logic function", 37 PB2 (power) "Positive supply for most of the logic function", 38 PE7 (power) "Positive supply for most of the logic function", 39 PE8 (power) "Positive supply for most of the logic function", 40 PE9 (power) "Positive supply for most of the logic function", 41 PE10 (power) "Positive supply for most of the logic function", 42 PE11 (power) "Positive supply for most of the logic function", 43 PE12 (power) "Positive supply for most of the logic function", 44 PE13 (power) "Positive supply for most of the logic function", 45 PE14 (power) "Positive supply for most of the logic function", 46 PE15 (power) "Positive supply for most of the logic function", 47 PB10 (power) "Positive supply for most of the logic function", 48 PB11 (power) "Positive supply for most of the logic function", 51 PB12 (power) "Positive supply for most of the logic function", 52 PB13 (power) "Positive supply for most of the logic function", 53 PB14 (power) "Positive supply for most of the logic function", 54 PB15 (power) "Positive supply for most of the logic function", 55 PD8 (power) "Positive supply for most of the logic function", 56 PD9 (power) "Positive supply for most of the logic function", 57 PD10 (power) "Positive supply for most of the logic function", 58 PD11 (power) "Positive supply for most of the logic function", 59 PD12 (power) "Positive supply for most of the logic function", 60 PD13 (power) "Positive supply for most of the logic function", 61 PD14 (power) "Positive supply for most of the logic function", 62 PD15 (power) "Positive supply for most of the logic function", 63 PC6 (power) "Positive supply for most of the logic function", 64 PC7 (power) "Positive supply for most of the logic function", 65 PC8 (power) "Positive supply for most of the logic function", 66 PC9 (power) "Positive supply for most of the logic function", 67 PA8 (power) "Positive supply for most of the logic function", 68 PA9 (power) "Positive supply for most of the logic function", 69 PA10 (power) "Positive supply for most of the logic function", 70 PA11 (power) "Positive supply for most of the logic function", 71 PA12 (power) "Positive supply for most of the logic function", 72 PA13 (power) "Positive supply for most of the logic function", 76 PA14 (power) "Positive supply for most of the logic function", 77 PA15 (power) "Positive supply for most of the logic function", 78 PC10 (power) "Positive supply for most of the logic function", 79 PC11 (power) "Positive supply for most of the logic function", 80 PC12 (power) "Positive supply for most of the logic function", 81 PD0 (power) "Positive supply for most of the logic function", 82 PD1 (power) "Positive supply for most of the logic function", 83 PD2 (power) "Positive supply for most of the logic function", 84 PD3 (power) "Positive supply for most of the logic function", 85 PD4 (power) "Positive supply for most of the logic function", 86 PD5 (power) "Positive supply for most of the logic function", 87 PD6 (power) "Positive supply for most of the logic function", 88 PD7 (power) "Positive supply for most of the logic function", 89 PB3 (power) "Positive supply for most of the logic function", 90 PB4 (power) "Positive supply for most of the logic function", 91 PB5 (power) "Positive supply for most of the logic function", 92 PB6 (power) "Positive supply for most of the logic function", 93 PB7 (power) "Positive supply for most of the logic function", 95 PB8 (power) "Positive supply for most of the logic function", 96 PB9 (power) "Positive supply for most of the logic function", 97 PE0 (power) "Positive supply for most of the logic function", 98 PE1 (power) "Positive supply for most of the logic function"
part B pins: 6 VBAT (power) "Positive supply for most of the logic function", 10 VSS (power) "Positive supply for most of the logic function", 11 VDD (power) "Positive supply for most of the logic function", 19 VDD (power) "Positive supply for most of the logic function", 20 VSSA (power) "Positive supply for most of the logic function", 21 VREF+ (power) "Positive supply for most of the logic function", 22 VDDA (power) "Positive supply for most of the logic function", 27 VSS (power) "Positive supply for most of the logic function", 28 VDD (power) "Positive supply for most of the logic function", 49 VCAP_1 (power) "Positive supply for most of the logic function", 50 VDD (power) "Positive supply for most of the logic function", 73 VCAP_2 (power) "Positive supply for most of the logic function", 74 VSS (power) "Positive supply for most of the logic function", 75 VDD (power) "Positive supply for most of the logic function", 94 BOOT0 (power) "Positive supply for most of the logic function", 99 VSS (power) "Positive supply for most of the logic function", 100 VDD (power) "Positive supply for most of the logic function"

## STM32L011F4U6
designator DD?
Микроконтроллеры ARM Ultra-low-power ARM Cortex-M0+ MCU with 16-Kbytes Flash, 32 MHz CPU; Manufacturer: STM MicroElectronics; Power: 1.65 V to 3.6 V; Value: 32-bit; Package: UFQFPN20; Price: 0,7; Documentation: https://www.st.com/resource/en/datasheet/stm32l011d4.pdf; ShoppingPlace: https://ru.aliexpress.com/wholesale?catId=0&initiative_id=SB_20190330122120&SearchText=STM32L011; Quantity: 1; ValueDesc: =Микроконтроллер +'PartNumber'+'Package'+'Manufacturer'; ComponentLink1Description: ST; ComponentLink1URL: https://www.st.com/resource/en/datasheet/stm32l011d4.pdf; Part Number: STM32L011F4U6
footprint 20-UFQFPN (3mmx3mm)
pins: 1 PC14/OSC32_IN (io) "GPIO port E bit 0", 2 PC15/OSC32_OUT (io) "GPIO port E bit 0", 3 NRST (in) "GPIO port E bit 0", 4 VDDA (power) "GPIO port E bit 0", 5 PA0/CK_IN (power) "GPIO port E bit 0", 6 PA1 (io) "GPIO port E bit 0", 7 PA4 (io) "GPIO port E bit 0", 8 PA5 (io) "GPIO port A bit 0", 9 PA6 (io) "GPIO port A bit 0", 10 PA7 (io) "GPIO port A bit 0", 11 PB1 (io) "GPIO port B bit 0", 12 VSS (power) "GPIO port E bit 0", 13 VDD (power) "GPIO port E bit 0", 14 PA9 (io) "GPIO port A bit 0", 15 PA10 (io) "GPIO port A bit 0", 16 PA13 (io) "GPIO port A bit 0", 17 PA14 (io) "GPIO port A bit 0", 18 PB6 (io) "GPIO port Bbit 0", 19 PB7 (io) "GPIO port Bbit 0", 20 PB9/BOOT0 (io) "GPIO port E bit 0"

## STM32L011F4x
designator DD?, comment STM32L011F4P6TR
Микроконтроллеры ARM Ultra-low-power ARM Cortex-M0+ MCU with 16-Kbytes Flash, 32 MHz CPU; Manufacturer: STM MicroElectronics; Power: 1.65 V to 3.6 V; Value: 32-bit; ValueDesc: Микроконтроллер +'PartNumber'+'Package'+'Manufacturer'; Package: TSOP-20; Price: 1; Documentation: https://www.st.com/resource/en/datasheet/stm32l011d4.pdf; ShoppingPlace: https://ru.mouser.com/ProductDetail/STMicroelectronics/STM32L011F4P6?qs=sGAEpiMZZMvzNxwKcL67%252bml2OJ%2fVYA8sx9RemtBp%2fEU%3d; Quantity: 1; Part Number: STM32L011F4P6TR
footprint 20-TSOP (TSOP, 20-Leads, Body 6,50x4,40mm, Pitch 0,65mm, IPC Medium Density)
pins: 1 PB9 (io) "GPIO port E bit 0", 2 PC14/OSC32_IN (io) "GPIO port E bit 0", 3 PC15/OSC32_OUT (io) "GPIO port E bit 0", 4 NRST (in) "GPIO port E bit 0", 5 VDDA (power) "GPIO port E bit 0", 6 PA0/CK_IN (power) "GPIO port E bit 0", 7 PA1 (io) "GPIO port E bit 0", 8 PA2 (io) "GPIO port E bit 0", 9 PA3 (io) "GPIO port E bit 0", 10 PA4 (io) "GPIO port E bit 0", 11 PA5 (io) "GPIO port E bit 0", 12 PA6 (io) "GPIO port E bit 0", 13 PA7 (io) "GPIO port E bit 0", 14 PB1 (io) "GPIO port E bit 0", 15 VSS (power) "GPIO port E bit 0", 16 VDD (power) "GPIO port E bit 0", 17 PA9 (io) "GPIO port E bit 0", 18 PA10 (io) "GPIO port E bit 0", 19 PA13 (io) "GPIO port E bit 0", 20 PA14 (io) "GPIO port E bit 0"

## TCAN1051VDQ1
designator DD?
1/1 Transceiver Half CANbus 8-SOIC; Manufacturer: Texas Instruments; Power: 4.5V ~ 5.5V; ValueDesc: CAN трансивер +'PartNumber'+'Package'+'Manufacturer'; Package: 8-SOIC; Price: 1,74; Documentation: http://www.ti.com/lit/ds/symlink/tcan1051-q1.pdf; ShoppingPlace: https://www.digikey.com/product-detail/en/texas-instruments/TCAN1051VDQ1/296-44171-5-ND/6023571; Quantity: 1; Value: Transceiver Half CANbus; Tolerance: 4.5V ~ 5.5V; Part Number: TCAN1051VDQ1
footprint 8-SOIC-4,90x3,90mm (SOIC, 8-Leads, Body 4,90x3,90mm, Pitch 1,27mm, IPC Medium Density)
pins: 1 TX (in) "Clear Data Input", 2 GND (power) "Clock Input", 3 VCC (power) "Clock Input", 4 RX (out) "Clock Input", 5 VIO (power) "Power", 6 CANL (io) "Power", 7 CANH (io) "Power", 8 S (in) "Power"

## TM4C123GH6PMT
designator DD?
IC MCU 32BIT 256KB FLASH 64LQFP; Manufacturer: Texas Instruments; Value: 32-bit; Package: 64LQFP(10x10); Documentation: http://www.ti.com/lit/ds/symlink/tm4c123gh6pm.pdf; ShoppingPlace: https://www.digikey.com/product-detail/en/texas-instruments/TM4C123GH6PMT/296-35849-ND/4036463; Quantity: *; Part Number: TM4C123GH6PMT
footprint QFP-64-10x10-0.5 (LQFP, 64-Leads, Body 10x10mm, Pitch 0.5mm)
pins: 1 PB6  (io) "GPIO port B bit 6", 2 VDDA (power) "The positive supply for the analog circuits", 3 GNDA (power) "The ground reference for the analog circuits", 4 PB7  (io) "GPIO port B bit 7", 5 PF4 (io) "GPIO port F bit 4", 6 PE3 (io) "GPIO port E bit 3", 7 PE2 (io) "GPIO port E bit 2", 8 PE1 (io) "GPIO port E bit 1", 9 PE0 (io) "GPIO port E bit 0", 10 PD7 (io) "GPIO port D bit 7", 11 VDD (power) "Positive supply for I/O and some logic", 12 GND (power) "Ground reference for logic and I/O pins", 13 PC7 (io) "GPIO port C bit 7", 14 PC6 (io) "GPIO port C bit 6", 15 PC5 (io) "GPIO port C bit 5", 16 PC4 (io) "GPIO port C bit 4", 17 PA0 (io) "GPIO port A bit 0", 18 PA1 (io) "GPIO port A bit 1", 19 PA2 (io) "GPIO port A bit 2", 20 PA3 (io) "GPIO port A bit 3", 21 PA4 (io) "GPIO port A bit 4", 22 PA5 (io) "GPIO port A bit 5", 23 PA6 (io) "GPIO port A bit 6", 24 PA7 (io) "GPIO port A bit 7", 25 VDDC (power) "Positive supply for most of the logic function", 26 VDD (power) "Positive supply for I/O and some logic", 27 GND (power) "Ground reference for logic and I/O pins", 28 PF0 (io) "GPIO port F bit 0", 29 PF1 (io) "GPIO port F bit 1", 30 PF2 (io) "GPIO port F bit 2", 31 PF3 (io) "GPIO port F bit 3", 32 ~{WAK}E (in) "An external input that brings the processor out of Hibernate mode", 33 ~{HI}B (out) "An output that indicates the processor is in Hibernate mode", 34 XOSC0  (in) "Hibernation module oscillator crystal input", 35 GNDX (power) "GND for the Hibernation oscillator", 36 XOSC1  (out) "Hibernation module oscillator crystal output", 37 VBAT (power) "Power source for the Hibernation module", 38 ~{RS}T (in) "System reset input", 39 GND (power) "Ground reference for logic and I/O pins", 40 OSC0  (in) "Main oscillator crystal input", 41 OSC1 (out) "Main oscillator crystal output", 42 VDD (power) "Positive supply for I/O and some logic", 43 PD4 (io) "GPIO port D bit 4", 44 PD5 (io) "GPIO port D bit 5", 45 PB0  (io) "GPIO port B bit 0", 46 PB1  (io) "GPIO port B bit 1", 47 PB2 (io) "GPIO port B bit 2", 48 PB3 (io) "GPIO port B bit 3", 49 PC3 (io) "GPIO port C bit 3", 50 PC2 (io) "GPIO port C bit 2", 51 PC1 (io) "GPIO port C bit 1", 52 PC0 (io) "GPIO port C bit 0", 53 PD6 (io) "GPIO port D bit 6", 54 VDD (power) "Positive supply for I/O and some logic", 55 GND (power) "Ground reference for logic and I/O pins", 56 VDDC (power) "Positive supply for most of the logic function", 57 PB5 (io) "GPIO port B bit 5", 58 PB4 (io) "GPIO port B bit 4", 59 PE4 (io) "GPIO port E bit 4", 60 PE5 (io) "GPIO port E bit 5", 61 PD0 (io) "GPIO port D bit 0", 62 PD1 (io) "GPIO port D bit 1", 63 PD2 (io) "GPIO port D bit 2", 64 PD3 (io) "GPIO port D bit 3"

## TSV912AIDSGT
designator DA?  (value not drawn)
General Purpose Amplifier 2 Circuit Rail-to-Rail 8-WSON (2x2); Manufacturer: Texas Instruments; Power: 1MHZ; Value: 1.8V~6V; Tolerance: -40°C ~ 125°C; ValueDesc: PartNumberPackageManufacturer; Part Number: TSV912AIDSGT; Package: 8-WSON (2x2); Price: 0,85; Documentation: http://www.ti.com/lit/ds/symlink/tsv912.pdf; ShoppingPlace: https://www.digikey.com/product-detail/en/texas-instruments/TSV912AIDSGT/296-47607-1-ND/8111080; Quantity: 1; ComponentLink1Description: Texas Instruments; ComponentLink1URL: http://www.ti.com/lit/ds/symlink/tsv912.pdf
footprint 8-WSON(2mmx2mm) (SON, 8-Leads, Body 2,00x2,00mm, Pitch 0,50mm, Thermal Pad 1,60x0,90mm, IPC Medium Density)
part A pins: 1 VOUTA (out), 2 VINA-, 3 VINA+ (in), 4 VSS, 8 VDD
part B pins: 5 VINB+ (in), 6 VINB- (in), 7 VOUTB (out)

## КР140УД608
designator DA?
Операционный усилитель КР140УД608 / DIP-8; Manufacturer: INTEGRAL; Power: +-12V; Value: Amplifier; Tolerance: -40°C ~ 85°C; Package: DIP-8; Price: 0,445; Documentation: https://belchip.by/sitedocs/00009684.pdf; ShoppingPlace: https://belchip.by/product/?selected_product=09684; Quantity: 1; ComponentLink1Description: INTEGRAL; ComponentLink1URL: https://belchip.by/sitedocs/00009684.pdf; ValueDesc: =Операционный усилитель +' '+PartNumber+' '+Package+' '+Manufacturer; Part Number: КР140УД608
footprint 8-DIP
pins: 1 BL, 2 - "INV", 3 + (in) "PSV", 4 VCC- (power) "VCC", 5 BL "RS485B", 6 OUT (out) "out Amp", 7 VCC+ (power) "VCC", 8 K (power) "VCC"
text: Amp